# Altium schematic symbol library C165948.SchLib: 1 symbol
Pins are listed as number, name and electrical type; pins without a type are passive.

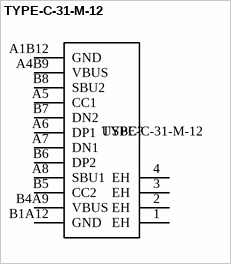
[diagram p0: symbol TYPE-C-31-M-12]

## TYPE-C-31-M-12
designator USBC?
USB-C (USB TYPE-C) Receptacle Connector 16 Position Surface Mount
footprint USB-C_SMD-TYPE-C-31-M-12_1 (USB-C (USB TYPE-C) Receptacle Connector 16 Position Surface Mount)
pins: 1 EH, 2 EH, 3 EH, 4 EH, A1B12 GND, A4B9 VBUS, A5 CC1, A6 DP1, A7 DN1, A8 SBU1, B1A12 GND, B4A9 VBUS, B5 CC2, B6 DP2, B7 DN2, B8 SBU2